# Altium integrated library NSC Switcher.IntLib: 2027 symbols (part 37 of 54)
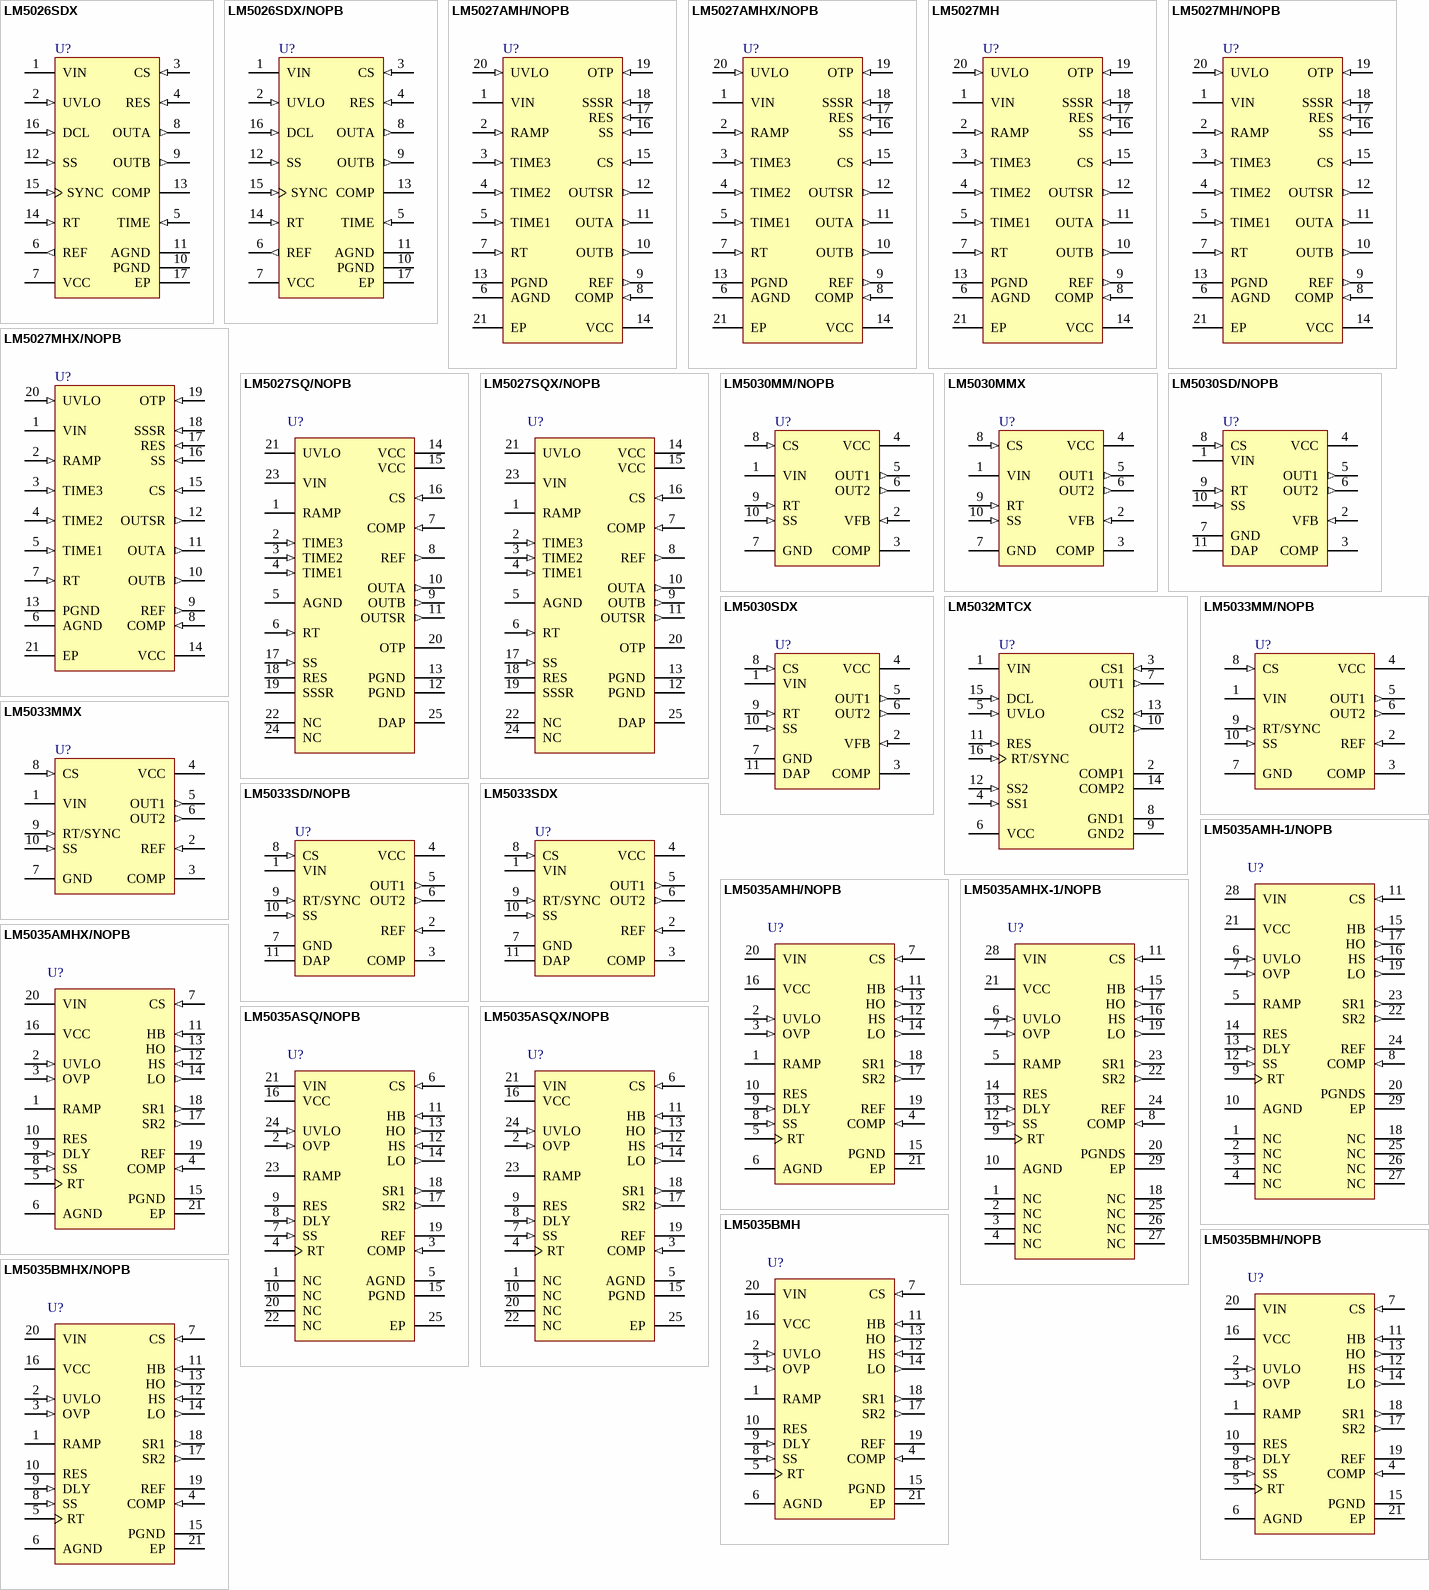
[diagram p99: symbols LM5026SDX to LM5035BMHX/NOPB]

## LM5027AMHX/NOPB
designator U?
Voltage Mode Active Clamp Controller, 20 pin TSSOP EXP PAD; PartNumber: LM5027AMHX/NOPB; Manufacturer: National Semiconductor; PackageTopMarking: NSUZXYTT*LM5027A*MH; PowerWise: N; CompType: Switcher; Published: 16-Nov-2010; DatasheetVersion: Jul-2010; PackageVersion: revC, Jul-2006; PackageReference: MXA20A; Publisher: Altium Limited; PackageDescription: Molded TSSOP, Jedec, 6.5 x 4.4 x 0.9mm Body, 20 Lead, 0.65mm Pitch, Exposed Pad; Supplier 1: Digi-Key; Supplier Part Number 1: LM5027AMHX/NOPB-ND; RoHS: Y; PinCount: 20; Code_JEDEC: MO-153-ACT; ComponentLink1Description: LM5027A Datasheet; ComponentLink1URL: http://www.national.com/ds/LM/LM5027A.pdf; ComponentLink2Description: LM5027A Web Page; ComponentLink2URL: http://www.national.com/pf/LM/LM5027A.html; ComponentLink3Description: MXA20A Package Page; ComponentLink3URL: http://www.national.com/packaging/folders/mxa20a.html
footprint MXA20A_N (TSOP, 20-Leads, Body 6.5x4.4mm, Pitch 0.65mm, Exposed Pad, IPC Medium Density)
footprint MXA20A_L (TSOP, 20-Leads, Body 6.5x4.4mm, Pitch 0.65mm, Exposed Pad, IPC High Density)
footprint MXA20A_M (TSOP, 20-Leads, Body 6.5x4.4mm, Pitch 0.65mm, Exposed Pad, IPC Low Density)
pins: 1 VIN (power), 2 RAMP (in), 3 TIME3 (in), 4 TIME2 (in), 5 TIME1 (in), 6 AGND (power), 7 RT (in), 8 COMP (in), 9 REF (out), 10 OUTB (out), 11 OUTA (out), 12 OUTSR (out), 13 PGND (power), 14 VCC (power), 15 CS (in), 16 SS (in), 17 RES (in), 18 SSSR (in), 19 OTP (in), 20 UVLO (in), 21 EP (power)

## LM5027MH
designator U?
Voltage Mode Active Clamp Controller, 20-pin TSSOP-EP; PartNumber: LM5027MH; Manufacturer: National Semiconductor; PackageTopMarking: NSUZXYTT*LM5027*MH; PowerWise: Y; CompType: Switcher; Published: 9-Oct-2009; DatasheetVersion: Nov-2009; PackageVersion: revC, Jul-2006; PackageReference: MXA20A; Publisher: Altium Limited; PackageDescription: Molded TSSOP, Jedec, 6.5 x 4.4 x 0.9mm Body, 20 Lead, 0.65mm Pitch, Exposed Pad; RoHS: Y; PinCount: 20; Code_JEDEC: MO-153-ACT; ComponentLink1Description: LM5027 Datasheet; ComponentLink1URL: http://www.national.com/ds/LM/LM5027.pdf; ComponentLink2Description: LM5027 Web Page; ComponentLink2URL: http://www.national.com/pf/LM/LM5027.html; ComponentLink3Description: MXA20A Package Page; ComponentLink3URL: http://www.national.com/packaging/folders/mxa20a.html
footprint MXA20A_N (TSOP, 20-Leads, Body 6.5x4.4mm, Pitch 0.65mm, Exposed Pad, IPC Medium Density)
footprint MXA20A_L (TSOP, 20-Leads, Body 6.5x4.4mm, Pitch 0.65mm, Exposed Pad, IPC High Density)
footprint MXA20A_M (TSOP, 20-Leads, Body 6.5x4.4mm, Pitch 0.65mm, Exposed Pad, IPC Low Density)
pins: 1 VIN (power), 2 RAMP (in), 3 TIME3 (in), 4 TIME2 (in), 5 TIME1 (in), 6 AGND (power), 7 RT (in), 8 COMP (in), 9 REF (out), 10 OUTB (out), 11 OUTA (out), 12 OUTSR (out), 13 PGND (power), 14 VCC (power), 15 CS (in), 16 SS (in), 17 RES (in), 18 SSSR (in), 19 OTP (in), 20 UVLO (in), 21 EP (power)

## LM5027MH/NOPB
designator U?
Voltage Mode Active Clamp Controller, 20-pin TSSOP-EP, Pb-Free; PartNumber: LM5027MH/NOPB; Manufacturer: National Semiconductor; PackageTopMarking: NSUZXYTT*LM5027*MH; PowerWise: Y; CompType: Switcher; Published: 1-Mar-2010; DatasheetVersion: Nov-2009; PackageVersion: revC, Jul-2006; PackageReference: MXA20A; Publisher: Altium Limited; PackageDescription: Molded TSSOP, Jedec, 6.5 x 4.4 x 0.9mm Body, 20 Lead, 0.65mm Pitch, Exposed Pad; Supplier 1: Digi-Key; Supplier Part Number 1: LM5027MH-ND; RoHS: Y; PinCount: 20; Code_JEDEC: MO-153-ACT; ComponentLink1Description: LM5027 Datasheet; ComponentLink1URL: http://www.national.com/ds/LM/LM5027.pdf; ComponentLink2Description: LM5027 Web Page; ComponentLink2URL: http://www.national.com/pf/LM/LM5027.html; ComponentLink3Description: MXA20A Package Page; ComponentLink3URL: http://www.national.com/packaging/folders/mxa20a.html
footprint MXA20A_N (TSOP, 20-Leads, Body 6.5x4.4mm, Pitch 0.65mm, Exposed Pad, IPC Medium Density)
footprint MXA20A_L (TSOP, 20-Leads, Body 6.5x4.4mm, Pitch 0.65mm, Exposed Pad, IPC High Density)
footprint MXA20A_M (TSOP, 20-Leads, Body 6.5x4.4mm, Pitch 0.65mm, Exposed Pad, IPC Low Density)
pins: 1 VIN (power), 2 RAMP (in), 3 TIME3 (in), 4 TIME2 (in), 5 TIME1 (in), 6 AGND (power), 7 RT (in), 8 COMP (in), 9 REF (out), 10 OUTB (out), 11 OUTA (out), 12 OUTSR (out), 13 PGND (power), 14 VCC (power), 15 CS (in), 16 SS (in), 17 RES (in), 18 SSSR (in), 19 OTP (in), 20 UVLO (in), 21 EP (power)

## LM5027MHX/NOPB
designator U?
Voltage Mode Active Clamp Controller, 20-pin TSSOP-EP, Pb-Free; PartNumber: LM5027MHX/NOPB; Manufacturer: National Semiconductor; PackageTopMarking: NSUZXYTT*LM5027*MH; PowerWise: Y; CompType: Switcher; Published: 1-Mar-2010; DatasheetVersion: Nov-2009; PackageVersion: revC, Jul-2006; PackageReference: MXA20A; Publisher: Altium Limited; PackageDescription: Molded TSSOP, Jedec, 6.5 x 4.4 x 0.9mm Body, 20 Lead, 0.65mm Pitch, Exposed Pad; Supplier 1: Digi-Key; Supplier Part Number 1: LM5027MHX-ND; RoHS: Y; PinCount: 20; Code_JEDEC: MO-153-ACT; ComponentLink1Description: LM5027 Datasheet; ComponentLink1URL: http://www.national.com/ds/LM/LM5027.pdf; ComponentLink2Description: LM5027 Web Page; ComponentLink2URL: http://www.national.com/pf/LM/LM5027.html; ComponentLink3Description: MXA20A Package Page; ComponentLink3URL: http://www.national.com/packaging/folders/mxa20a.html
footprint MXA20A_N (TSOP, 20-Leads, Body 6.5x4.4mm, Pitch 0.65mm, Exposed Pad, IPC Medium Density)
footprint MXA20A_L (TSOP, 20-Leads, Body 6.5x4.4mm, Pitch 0.65mm, Exposed Pad, IPC High Density)
footprint MXA20A_M (TSOP, 20-Leads, Body 6.5x4.4mm, Pitch 0.65mm, Exposed Pad, IPC Low Density)
pins: 1 VIN (power), 2 RAMP (in), 3 TIME3 (in), 4 TIME2 (in), 5 TIME1 (in), 6 AGND (power), 7 RT (in), 8 COMP (in), 9 REF (out), 10 OUTB (out), 11 OUTA (out), 12 OUTSR (out), 13 PGND (power), 14 VCC (power), 15 CS (in), 16 SS (in), 17 RES (in), 18 SSSR (in), 19 OTP (in), 20 UVLO (in), 21 EP (power)

## LM5027SQ/NOPB
designator U?
Voltage Mode Active Clamp Controller, 24 pin LLP, Pb-Free; PartNumber: LM5027SQ/NOPB; Manufacturer: National Semiconductor; PackageTopMarking: NS*UZXYTT*L5027; PowerWise: Y; CompType: Switcher; Published: 1-Mar-2010; DatasheetVersion: Nov-2009; PackageVersion: revA, Oct-2003; PackageReference: SQA24B; Publisher: Altium Limited; PackageDescription: LLP, Plastic, Quad, 5 x 4 x 0.8mm Body, 24 Lead, 0.5mm Pitch, No Pullback; Supplier 1: Digi-Key; Supplier Part Number 1: LM5027SQTR-ND; Supplier 2: Digi-Key; Supplier Part Number 2: LM5027SQCT-ND; Supplier 3: Digi-Key; Supplier Part Number 3: LM5027SQDKR-ND; RoHS: Y; PinCount: 24; Code_JEDEC: MO-220-WGHD-1; ComponentLink1Description: LM5027 Datasheet; ComponentLink1URL: http://www.national.com/ds/LM/LM5027.pdf; ComponentLink2Description: LM5027 Web Page; ComponentLink2URL: http://www.national.com/pf/LM/LM5027.html; ComponentLink3Description: SQA24B Package Page; ComponentLink3URL: http://www.national.com/packaging/folders/sqa24b.html
footprint SQA24B (QFN, 24-Leads, Body 5x4mm, Pitch 0.5mm, NSC Recommended)
pins: 1 RAMP "Vcom Amplifier negative input.", 2 TIME3 (in) "Vcom Amplifier output.", 3 TIME2 (in) "Analog Ground. Connect to AGND plane.", 4 TIME1 (in) "PMOS switch delay.", 5 AGND (power) "Boost Compensation Network Connection.", 6 RT (in) "Output Voltage Feedback input.", 7 COMP (in) "Power Ground. Connect to PGND plane.", 8 REF (out) "Power Ground. Connect to PGND plane.", 9 OUTB (out) "Not internally connected. Leave floating or connect to Ground.", 10 OUTA (out) "Not internally connected. Leave floating or connect to Ground.", 11 OUTSR (out) "NMOS power switch input.", 12 PGND (power) "NMOS power switch input.", 13 PGND (power) "NMOS power switch input.", 14 VCC (power) "Main power input, step-up and switch circuitry.", 15 VCC (power) "PMOS switch input.", 16 CS (in) "PMOS switch output.", 17 SS (in) "PMOS switch control pin.", 18 RES "Analog power input (buffers).", 19 SSSR "Gamma buffer output.", 20 OTP "Gamma buffer input.", 21 UVLO "Not internally connected. Leave floating or connect to Ground.", 22 NC "Not internally connected. Leave floating or connect to Ground.", 23 VIN (power) "Not internally connected. Leave floating or connect to Ground.", 24 NC "Vcom Amplifier positive input.", 25 DAP (power) "Center Die Attach Pad. Connect directly to AGND and PGND pins beneath the device."

## LM5027SQX/NOPB
designator U?
Voltage Mode Active Clamp Controller, 24 pin LLP, Pb-Free; PartNumber: LM5027SQX/NOPB; Manufacturer: National Semiconductor; PackageTopMarking: NS*UZXYTT*L5027; PowerWise: Y; CompType: Switcher; Published: 1-Mar-2010; DatasheetVersion: Nov-2009; PackageVersion: revA, Oct-2003; PackageReference: SQA24B; Publisher: Altium Limited; PackageDescription: LLP, Plastic, Quad, 5 x 4 x 0.8mm Body, 24 Lead, 0.5mm Pitch, No Pullback; Supplier 1: Digi-Key; Supplier Part Number 1: LM5027SQX/NOPB-ND; RoHS: Y; PinCount: 24; Code_JEDEC: MO-220-WGHD-1; ComponentLink1Description: LM5027 Datasheet; ComponentLink1URL: http://www.national.com/ds/LM/LM5027.pdf; ComponentLink2Description: LM5027 Web Page; ComponentLink2URL: http://www.national.com/pf/LM/LM5027.html; ComponentLink3Description: SQA24B Package Page; ComponentLink3URL: http://www.national.com/packaging/folders/sqa24b.html
footprint SQA24B (QFN, 24-Leads, Body 5x4mm, Pitch 0.5mm, NSC Recommended)
pins: 1 RAMP "Vcom Amplifier negative input.", 2 TIME3 (in) "Vcom Amplifier output.", 3 TIME2 (in) "Analog Ground. Connect to AGND plane.", 4 TIME1 (in) "PMOS switch delay.", 5 AGND (power) "Boost Compensation Network Connection.", 6 RT (in) "Output Voltage Feedback input.", 7 COMP (in) "Power Ground. Connect to PGND plane.", 8 REF (out) "Power Ground. Connect to PGND plane.", 9 OUTB (out) "Not internally connected. Leave floating or connect to Ground.", 10 OUTA (out) "Not internally connected. Leave floating or connect to Ground.", 11 OUTSR (out) "NMOS power switch input.", 12 PGND (power) "NMOS power switch input.", 13 PGND (power) "NMOS power switch input.", 14 VCC (power) "Main power input, step-up and switch circuitry.", 15 VCC (power) "PMOS switch input.", 16 CS (in) "PMOS switch output.", 17 SS (in) "PMOS switch control pin.", 18 RES "Analog power input (buffers).", 19 SSSR "Gamma buffer output.", 20 OTP "Gamma buffer input.", 21 UVLO "Not internally connected. Leave floating or connect to Ground.", 22 NC "Not internally connected. Leave floating or connect to Ground.", 23 VIN (power) "Not internally connected. Leave floating or connect to Ground.", 24 NC "Vcom Amplifier positive input.", 25 DAP (power) "Center Die Attach Pad. Connect directly to AGND and PGND pins beneath the device."

## LM5030MM/NOPB
designator U?
100V Push-Pull Current Mode PWM Controller, 10-pin MSOP, Pb-Free; PartNumber: LM5030MM/NOPB; Manufacturer: National Semiconductor; PackageTopMarking: ZXTT*S73B; PowerWise: Y; CompType: Switcher; Published: 1-Mar-2010; DatasheetVersion: Mar-2005; PackageVersion: revB, Jul-2003; PackageReference: MUB10A; Publisher: Altium Limited; PackageDescription: Mini-SO, Molded, .118 x .118 x .034in Body, 10 Lead, .0197in Pitch; Supplier 1: Digi-Key; Supplier Part Number 1: LM5030MMTR-ND; Supplier 2: Digi-Key; Supplier Part Number 2: LM5030MMCT-ND; Supplier 3: Digi-Key; Supplier Part Number 3: LM5030MMDKR-ND; RoHS: Y; PinCount: 10; Code_JEDEC: MO-187-BA; ComponentLink1Description: LM5030 Datasheet; ComponentLink1URL: http://www.national.com/ds/LM/LM5030.pdf; ComponentLink2Description: LM5030 Web Page; ComponentLink2URL: http://www.national.com/pf/LM/LM5030.html; ComponentLink3Description: MUB10A Package Page; ComponentLink3URL: http://www.national.com/packaging/folders/mub10a.html
footprint MUB10A_N (TSSOP, 10-Leads, Body 3x3mm, Pitch 0.5mm, IPC Medium Density)
footprint MUB10A_L (TSSOP, 10-Leads, Body 3x3mm, Pitch 0.5mm, IPC High Density)
footprint MUB10A_M (TSSOP, 10-Leads, Body 3x3mm, Pitch 0.5mm, IPC Low Density)
pins: 1 VIN (power), 2 VFB (in), 3 COMP, 4 VCC (power), 5 OUT1 (out), 6 OUT2 (out), 7 GND (power), 8 CS (in), 9 RT (in), 10 SS (in)

## LM5030MMX
designator U?
100V Push-Pull Current Mode PWM Controller, 10-pin MSOP; PartNumber: LM5030MMX; Manufacturer: National Semiconductor; PackageTopMarking: ZXTT*S73B; PowerWise: Y; CompType: Switcher; Published: 1-Mar-2010; DatasheetVersion: Mar-2005; PackageVersion: revB, Jul-2003; PackageReference: MUB10A; Publisher: Altium Limited; PackageDescription: Mini-SO, Molded, .118 x .118 x .034in Body, 10 Lead, .0197in Pitch; RoHS: N; PinCount: 10; Code_JEDEC: MO-187-BA; ComponentLink1Description: LM5030 Datasheet; ComponentLink1URL: http://www.national.com/ds/LM/LM5030.pdf; ComponentLink2Description: LM5030 Web Page; ComponentLink2URL: http://www.national.com/pf/LM/LM5030.html; ComponentLink3Description: MUB10A Package Page; ComponentLink3URL: http://www.national.com/packaging/folders/mub10a.html
footprint MUB10A_N (TSSOP, 10-Leads, Body 3x3mm, Pitch 0.5mm, IPC Medium Density)
footprint MUB10A_L (TSSOP, 10-Leads, Body 3x3mm, Pitch 0.5mm, IPC High Density)
footprint MUB10A_M (TSSOP, 10-Leads, Body 3x3mm, Pitch 0.5mm, IPC Low Density)
pins: 1 VIN (power), 2 VFB (in), 3 COMP, 4 VCC (power), 5 OUT1 (out), 6 OUT2 (out), 7 GND (power), 8 CS (in), 9 RT (in), 10 SS (in)

## LM5030SD/NOPB
designator U?
100V Push-Pull Current Mode PWM Controller, 10-pin LLP, Pb-Free; PartNumber: LM5030SD/NOPB; Manufacturer: National Semiconductor; PackageTopMarking: NS*UZXYTT*5030SD; PowerWise: Y; CompType: Switcher; Published: 1-Mar-2010; DatasheetVersion: Mar-2005; PackageVersion: revA, May-2003; PackageReference: SDC10A; Publisher: Altium Limited; PackageDescription: LLP, Plastic, Dual, 4 x 4 x 0.8mm Body, 10 Lead, 0.8mm Pitch, No Pullback; Supplier 1: Digi-Key; Supplier Part Number 1: LM5030SDTR-ND; Supplier 2: Digi-Key; Supplier Part Number 2: LM5030SDCT-ND; Supplier 3: Digi-Key; Supplier Part Number 3: LM5030SDDKR-ND; RoHS: Y; PinCount: 10; ComponentLink1Description: LM5030 Datasheet; ComponentLink1URL: http://www.national.com/ds/LM/LM5030.pdf; ComponentLink2Description: LM5030 Web Page; ComponentLink2URL: http://www.national.com/pf/LM/LM5030.html; ComponentLink3Description: SDC10A Package Page; ComponentLink3URL: http://www.national.com/packaging/folders/sdc10a.html
footprint SDC10A (SON, 10-Leads, Body 4x4 mm, Pitch 0.8mm, NSC Recommended)
pins: 1 VIN (power), 2 VFB (in), 3 COMP, 4 VCC (power), 5 OUT1 (out), 6 OUT2 (out), 7 GND (power), 8 CS (in), 9 RT (in), 10 SS (in), 11 DAP (power)

## LM5030SDX
designator U?
100V Push-Pull Current Mode PWM Controller, 10-pin LLP; PartNumber: LM5030SDX; Manufacturer: National Semiconductor; PackageTopMarking: NS*UZXYTT*5030SD; PowerWise: Y; CompType: Switcher; Published: 1-Mar-2010; DatasheetVersion: Mar-2005; PackageVersion: revA, May-2003; PackageReference: SDC10A; Publisher: Altium Limited; PackageDescription: LLP, Plastic, Dual, 4 x 4 x 0.8mm Body, 10 Lead, 0.8mm Pitch, No Pullback; RoHS: N; PinCount: 10; ComponentLink1Description: LM5030 Datasheet; ComponentLink1URL: http://www.national.com/ds/LM/LM5030.pdf; ComponentLink2Description: LM5030 Web Page; ComponentLink2URL: http://www.national.com/pf/LM/LM5030.html; ComponentLink3Description: SDC10A Package Page; ComponentLink3URL: http://www.national.com/packaging/folders/sdc10a.html
footprint SDC10A (SON, 10-Leads, Body 4x4 mm, Pitch 0.8mm, NSC Recommended)
pins: 1 VIN (power), 2 VFB (in), 3 COMP, 4 VCC (power), 5 OUT1 (out), 6 OUT2 (out), 7 GND (power), 8 CS (in), 9 RT (in), 10 SS (in), 11 DAP (power)

## LM5032MTCX
designator U?
High Voltage Dual Interleaved Current Mode Controller, 16-pin TSSOP; PartNumber: LM5032MTCX; Manufacturer: National Semiconductor; PackageTopMarking: NSUZXYTT*LM5032*MTC; PowerWise: Y; CompType: Switcher; Published: 1-Mar-2010; DatasheetVersion: Mar-2005; PackageVersion: revD, Jun-2003; PackageReference: MTC16; Publisher: Altium Limited; PackageDescription: Molded TSSOP, Jedec, 5 x 4.4 x 0.9mm Body, 16 Lead, 0.65mm Pitch; RoHS: N; PinCount: 16; Code_JEDEC: MO-153-AB; ComponentLink1Description: LM5032 Datasheet; ComponentLink1URL: http://www.national.com/ds/LM/LM5032.pdf; ComponentLink2Description: LM5032 Web Page; ComponentLink2URL: http://www.national.com/pf/LM/LM5032.html; ComponentLink3Description: MTC16 Package Page; ComponentLink3URL: http://www.national.com/packaging/folders/mtc16.html
footprint MTC16_N (TSOP, 16-Leads, Body 5x4.4mm, Pitch 0.65mm, IPC Medium Density)
footprint MTC16_L (TSOP, 16-Leads, Body 5x4.4mm, Pitch 0.65mm, IPC High Density)
footprint MTC16_M (TSOP, 16-Leads, Body 5x4.4mm, Pitch 0.65mm, IPC Low Density)
pins: 1 VIN (power), 2 COMP1, 3 CS1 (in), 4 SS1 (in), 5 UVLO (in), 6 VCC (power), 7 OUT1 (out), 8 GND1 (power), 9 GND2 (power), 10 OUT2 (out), 11 RES (in), 12 SS2 (in), 13 CS2 (in), 14 COMP2, 15 DCL (in), 16 RT/SYNC (in)

## LM5033MM/NOPB
designator U?
100V Push-Pull Voltage Mode PWM Controller, 10-pin MSOP, Pb-Free; PartNumber: LM5033MM/NOPB; Manufacturer: National Semiconductor; PackageTopMarking: ZXTT*SCVB; PowerWise: Y; CompType: Switcher; Published: 1-Mar-2010; DatasheetVersion: Feb-2005; PackageVersion: revB, Jul-2003; PackageReference: MUB10A; Publisher: Altium Limited; PackageDescription: Mini-SO, Molded, .118 x .118 x .034in Body, 10 Lead, .0197in Pitch; Supplier 1: Digi-Key; Supplier Part Number 1: LM5033MMTR-ND; Supplier 2: Digi-Key; Supplier Part Number 2: LM5033MMCT-ND; Supplier 3: Digi-Key; Supplier Part Number 3: LM5033MMDKR-ND; Supplier 4: Farnell; Supplier Part Number 4: 1559756; RoHS: Y; PinCount: 10; Code_JEDEC: MO-187-BA; ComponentLink1Description: LM5033 Datasheet; ComponentLink1URL: http://www.national.com/ds/LM/LM5033.pdf; ComponentLink2Description: LM5033 Web Page; ComponentLink2URL: http://www.national.com/pf/LM/LM5033.html; ComponentLink3Description: MUB10A Package Page; ComponentLink3URL: http://www.national.com/packaging/folders/mub10a.html
footprint MUB10A_N (TSSOP, 10-Leads, Body 3x3mm, Pitch 0.5mm, IPC Medium Density)
footprint MUB10A_L (TSSOP, 10-Leads, Body 3x3mm, Pitch 0.5mm, IPC High Density)
footprint MUB10A_M (TSSOP, 10-Leads, Body 3x3mm, Pitch 0.5mm, IPC Low Density)
pins: 1 VIN (power), 2 REF (in), 3 COMP, 4 VCC (power), 5 OUT1 (out), 6 OUT2 (out), 7 GND (power), 8 CS (in), 9 RT/SYNC (in), 10 SS (in)

## LM5033MMX
designator U?
100V Push-Pull Voltage Mode PWM Controller, 10-pin MSOP; PartNumber: LM5033MMX; Manufacturer: National Semiconductor; PackageTopMarking: ZXTT*SCVB; PowerWise: Y; CompType: Switcher; Published: 1-Mar-2010; DatasheetVersion: Feb-2005; PackageVersion: revB, Jul-2003; PackageReference: MUB10A; Publisher: Altium Limited; PackageDescription: Mini-SO, Molded, .118 x .118 x .034in Body, 10 Lead, .0197in Pitch; RoHS: N; PinCount: 10; Code_JEDEC: MO-187-BA; ComponentLink1Description: LM5033 Datasheet; ComponentLink1URL: http://www.national.com/ds/LM/LM5033.pdf; ComponentLink2Description: LM5033 Web Page; ComponentLink2URL: http://www.national.com/pf/LM/LM5033.html; ComponentLink3Description: MUB10A Package Page; ComponentLink3URL: http://www.national.com/packaging/folders/mub10a.html
footprint MUB10A_N (TSSOP, 10-Leads, Body 3x3mm, Pitch 0.5mm, IPC Medium Density)
footprint MUB10A_L (TSSOP, 10-Leads, Body 3x3mm, Pitch 0.5mm, IPC High Density)
footprint MUB10A_M (TSSOP, 10-Leads, Body 3x3mm, Pitch 0.5mm, IPC Low Density)
pins: 1 VIN (power), 2 REF (in), 3 COMP, 4 VCC (power), 5 OUT1 (out), 6 OUT2 (out), 7 GND (power), 8 CS (in), 9 RT/SYNC (in), 10 SS (in)

## LM5033SD/NOPB
designator U?
100V Push-Pull Voltage Mode PWM Controller, 10-pin LLP, Pb-Free; PartNumber: LM5033SD/NOPB; Manufacturer: National Semiconductor; PackageTopMarking: NS*UZXYTT*5033SD; PowerWise: Y; CompType: Switcher; Published: 1-Mar-2010; DatasheetVersion: Feb-2005; PackageVersion: revA, May-2003; PackageReference: SDC10A; Publisher: Altium Limited; PackageDescription: LLP, Plastic, Dual, 4 x 4 x 0.8mm Body, 10 Lead, 0.8mm Pitch, No Pullback; Supplier 1: Digi-Key; Supplier Part Number 1: LM5033SDTR-ND; Supplier 2: Digi-Key; Supplier Part Number 2: LM5033SDCT-ND; Supplier 3: Digi-Key; Supplier Part Number 3: LM5033SDDKR-ND; RoHS: Y; PinCount: 10; ComponentLink1Description: LM5033 Datasheet; ComponentLink1URL: http://www.national.com/ds/LM/LM5033.pdf; ComponentLink2Description: LM5033 Web Page; ComponentLink2URL: http://www.national.com/pf/LM/LM5033.html; ComponentLink3Description: SDC10A Package Page; ComponentLink3URL: http://www.national.com/packaging/folders/sdc10a.html
footprint SDC10A (SON, 10-Leads, Body 4x4 mm, Pitch 0.8mm, NSC Recommended)
pins: 1 VIN (power), 2 REF (in), 3 COMP, 4 VCC (power), 5 OUT1 (out), 6 OUT2 (out), 7 GND (power), 8 CS (in), 9 RT/SYNC (in), 10 SS (in), 11 DAP (power)

## LM5033SDX
designator U?
100V Push-Pull Voltage Mode PWM Controller, 10-pin LLP; PartNumber: LM5033SDX; Manufacturer: National Semiconductor; PackageTopMarking: NS*UZXYTT*5033SD; PowerWise: Y; CompType: Switcher; Published: 1-Mar-2010; DatasheetVersion: Feb-2005; PackageVersion: revA, May-2003; PackageReference: SDC10A; Publisher: Altium Limited; PackageDescription: LLP, Plastic, Dual, 4 x 4 x 0.8mm Body, 10 Lead, 0.8mm Pitch, No Pullback; RoHS: N; PinCount: 10; ComponentLink1Description: LM5033 Datasheet; ComponentLink1URL: http://www.national.com/ds/LM/LM5033.pdf; ComponentLink2Description: LM5033 Web Page; ComponentLink2URL: http://www.national.com/pf/LM/LM5033.html; ComponentLink3Description: SDC10A Package Page; ComponentLink3URL: http://www.national.com/packaging/folders/sdc10a.html
footprint SDC10A (SON, 10-Leads, Body 4x4 mm, Pitch 0.8mm, NSC Recommended)
pins: 1 VIN (power), 2 REF (in), 3 COMP, 4 VCC (power), 5 OUT1 (out), 6 OUT2 (out), 7 GND (power), 8 CS (in), 9 RT/SYNC (in), 10 SS (in), 11 DAP (power)

## LM5035AMH-1/NOPB
designator U?
PWM Controller with Integrated  Half-Bridge and SyncFET Drivers, 28 pin TSSOP EXP PAD; PartNumber: LM5035AMH-1/NOPB; Manufacturer: National Semiconductor; PackageTopMarking: NSUZXYTT*LM5035*AMH-1; PowerWise: N; CompType: Switcher; Published: 16-Nov-2010; DatasheetVersion: Jul-2010; PackageVersion: revD, Oct-2003; PackageReference: MXA28A; Publisher: Altium Limited; PackageDescription: Molded TSSOP, Jedec, 9.7 x 4.4 x 0.9mm Body, 28 Lead, 0.65mm Pitch, Exposed Pad; Supplier 1: Digi-Key; Supplier Part Number 1: LM5035AMH-1/NOPB-ND; RoHS: Y; PinCount: 28; Code_JEDEC: MO-153-AET; ComponentLink1Description: LM5035A Datasheet; ComponentLink1URL: http://www.national.com/ds/LM/LM5035A.pdf; ComponentLink2Description: LM5035A Web Page; ComponentLink2URL: http://www.national.com/pf/LM/LM5035A.html; ComponentLink3Description: MXA28A Package Page; ComponentLink3URL: http://www.national.com/packaging/folders/mxa28a.html
footprint MXA28A_N (TSOP, 28-Leads, Body 9.7x4.4mm, Pitch 0.65mm, Exposed Pad, IPC Medium Density)
footprint MXA28A_L (TSOP, 28-Leads, Body 9.7x4.4mm, Pitch 0.65mm, Exposed Pad, IPC High Density)
footprint MXA28A_M (TSOP, 28-Leads, Body 9.7x4.4mm, Pitch 0.65mm, Exposed Pad, IPC Low Density)
pins: 1 NC, 2 NC, 3 NC, 4 NC, 5 RAMP, 6 UVLO (in), 7 OVP (in), 8 COMP (in), 9 RT (power), 10 AGND (power), 11 CS (in), 12 SS (in), 13 DLY (in), 14 RES, 15 HB (in), 16 HS (in), 17 HO (out), 18 NC, 19 LO (out), 20 PGNDS (power), 21 VCC (power), 22 SR2 (out), 23 SR1 (out), 24 REF (power), 25 NC, 26 NC, 27 NC, 28 VIN (power), 29 EP (power)

## LM5035AMH/NOPB
designator U?
PWM Controller with Integrated Half-Bridge and SyncFET Drivers, 20-pin TSSOP-EP, Pb-Free; PartNumber: LM5035AMH/NOPB; Manufacturer: National Semiconductor; PackageTopMarking: NSUZXYTT*LM5035*AMH; PowerWise: Y; CompType: Switcher; Published: 1-Mar-2010; DatasheetVersion: Jul-2010; PackageVersion: revC, Jul-2006; PackageReference: MXA20A; Publisher: Altium Limited; PackageDescription: Molded TSSOP, Jedec, 6.5 x 4.4 x 0.9mm Body, 20 Lead, 0.65mm Pitch, Exposed Pad; Supplier 1: Digi-Key; Supplier Part Number 1: LM5035AMH-ND; RoHS: Y; PinCount: 20; Code_JEDEC: MO-153-ACT; ComponentLink1Description: LM5035A Datasheet; ComponentLink1URL: http://www.national.com/ds/LM/LM5035A.pdf; ComponentLink2Description: LM5035A Web Page; ComponentLink2URL: http://www.national.com/pf/LM/LM5035A.html; ComponentLink3Description: MXA20A Package Page; ComponentLink3URL: http://www.national.com/packaging/folders/mxa20a.html
footprint MXA20A_N (TSOP, 20-Leads, Body 6.5x4.4mm, Pitch 0.65mm, Exposed Pad, IPC Medium Density)
footprint MXA20A_L (TSOP, 20-Leads, Body 6.5x4.4mm, Pitch 0.65mm, Exposed Pad, IPC High Density)
footprint MXA20A_M (TSOP, 20-Leads, Body 6.5x4.4mm, Pitch 0.65mm, Exposed Pad, IPC Low Density)
pins: 1 RAMP, 2 UVLO (in), 3 OVP (in), 4 COMP (in), 5 RT (power), 6 AGND (power), 7 CS (in), 8 SS (in), 9 DLY (in), 10 RES, 11 HB (in), 12 HS (in), 13 HO (out), 14 LO (out), 15 PGND (power), 16 VCC (power), 17 SR2 (out), 18 SR1 (out), 19 REF (power), 20 VIN (power), 21 EP (power)

## LM5035AMHX-1/NOPB
designator U?
PWM Controller with Integrated  Half-Bridge and SyncFET Drivers, 28 pin TSSOP EXP PAD; PartNumber: LM5035AMHX-1/NOPB; Manufacturer: National Semiconductor; PackageTopMarking: NSUZXYTT*LM5035*AMH-1; PowerWise: N; CompType: Switcher; Published: 16-Nov-2010; DatasheetVersion: Jul-2010; PackageVersion: revD, Oct-2003; PackageReference: MXA28A; Publisher: Altium Limited; PackageDescription: Molded TSSOP, Jedec, 9.7 x 4.4 x 0.9mm Body, 28 Lead, 0.65mm Pitch, Exposed Pad; Supplier 1: Digi-Key; Supplier Part Number 1: LM5035AMHX-1/NOPB-ND; RoHS: Y; PinCount: 28; Code_JEDEC: MO-153-AET; ComponentLink1Description: LM5035A Datasheet; ComponentLink1URL: http://www.national.com/ds/LM/LM5035A.pdf; ComponentLink2Description: LM5035A Web Page; ComponentLink2URL: http://www.national.com/pf/LM/LM5035A.html; ComponentLink3Description: MXA28A Package Page; ComponentLink3URL: http://www.national.com/packaging/folders/mxa28a.html
footprint MXA28A_N (TSOP, 28-Leads, Body 9.7x4.4mm, Pitch 0.65mm, Exposed Pad, IPC Medium Density)
footprint MXA28A_L (TSOP, 28-Leads, Body 9.7x4.4mm, Pitch 0.65mm, Exposed Pad, IPC High Density)
footprint MXA28A_M (TSOP, 28-Leads, Body 9.7x4.4mm, Pitch 0.65mm, Exposed Pad, IPC Low Density)
pins: 1 NC, 2 NC, 3 NC, 4 NC, 5 RAMP, 6 UVLO (in), 7 OVP (in), 8 COMP (in), 9 RT (power), 10 AGND (power), 11 CS (in), 12 SS (in), 13 DLY (in), 14 RES, 15 HB (in), 16 HS (in), 17 HO (out), 18 NC, 19 LO (out), 20 PGNDS (power), 21 VCC (power), 22 SR2 (out), 23 SR1 (out), 24 REF (power), 25 NC, 26 NC, 27 NC, 28 VIN (power), 29 EP (power)

## LM5035AMHX/NOPB
designator U?
PWM Controller with Integrated Half-Bridge and SyncFET Drivers, 20-pin TSSOP-EP, Pb-Free; PartNumber: LM5035AMHX/NOPB; Manufacturer: National Semiconductor; PackageTopMarking: NSUZXYTT*LM5035*AMH; PowerWise: Y; CompType: Switcher; Published: 1-Mar-2010; DatasheetVersion: Jul-2010; PackageVersion: revC, Jul-2006; PackageReference: MXA20A; Publisher: Altium Limited; PackageDescription: Molded TSSOP, Jedec, 6.5 x 4.4 x 0.9mm Body, 20 Lead, 0.65mm Pitch, Exposed Pad; Supplier 1: Digi-Key; Supplier Part Number 1: LM5035AMHX-ND; RoHS: Y; PinCount: 20; Code_JEDEC: MO-153-ACT; ComponentLink1Description: LM5035A Datasheet; ComponentLink1URL: http://www.national.com/ds/LM/LM5035A.pdf; ComponentLink2Description: LM5035A Web Page; ComponentLink2URL: http://www.national.com/pf/LM/LM5035A.html; ComponentLink3Description: MXA20A Package Page; ComponentLink3URL: http://www.national.com/packaging/folders/mxa20a.html
footprint MXA20A_N (TSOP, 20-Leads, Body 6.5x4.4mm, Pitch 0.65mm, Exposed Pad, IPC Medium Density)
footprint MXA20A_L (TSOP, 20-Leads, Body 6.5x4.4mm, Pitch 0.65mm, Exposed Pad, IPC High Density)
footprint MXA20A_M (TSOP, 20-Leads, Body 6.5x4.4mm, Pitch 0.65mm, Exposed Pad, IPC Low Density)
pins: 1 RAMP, 2 UVLO (in), 3 OVP (in), 4 COMP (in), 5 RT (power), 6 AGND (power), 7 CS (in), 8 SS (in), 9 DLY (in), 10 RES, 11 HB (in), 12 HS (in), 13 HO (out), 14 LO (out), 15 PGND (power), 16 VCC (power), 17 SR2 (out), 18 SR1 (out), 19 REF (power), 20 VIN (power), 21 EP (power)

## LM5035ASQ/NOPB
designator U?
PWM Controller with Integrated Half-Bridge and SyncFET Drivers, 24-pin LLP, Pb-Free; PartNumber: LM5035ASQ/NOPB; Manufacturer: National Semiconductor; PackageTopMarking: NS*UZXYTT*5035ASQ; PowerWise: Y; CompType: Switcher; Published: 1-Mar-2010; DatasheetVersion: Jul-2010; PackageVersion: revA, Oct-2003; PackageReference: SQA24B; Publisher: Altium Limited; PackageDescription: LLP, Plastic, Quad, 5 x 4 x 0.8mm Body, 24 Lead, 0.5mm Pitch, No Pullback; Supplier 1: Digi-Key; Supplier Part Number 1: LM5035ASQTR-ND; Supplier 2: Digi-Key; Supplier Part Number 2: LM5035ASQCT-ND; Supplier 3: Digi-Key; Supplier Part Number 3: LM5035ASQDKR-ND; Supplier 4: Farnell; Supplier Part Number 4: 1685773; RoHS: Y; PinCount: 24; Code_JEDEC: MO-220-WGHD-1; ComponentLink1Description: LM5035A Datasheet; ComponentLink1URL: http://www.national.com/ds/LM/LM5035A.pdf; ComponentLink2Description: LM5035A Web Page; ComponentLink2URL: http://www.national.com/pf/LM/LM5035A.html; ComponentLink3Description: SQA24B Package Page; ComponentLink3URL: http://www.national.com/packaging/folders/sqa24b.html
footprint SQA24B (QFN, 24-Leads, Body 5x4mm, Pitch 0.5mm, NSC Recommended)
pins: 1 NC, 2 OVP (in), 3 COMP (in), 4 RT (power), 5 AGND (power), 6 CS (in), 7 SS (in), 8 DLY (in), 9 RES, 10 NC, 11 HB (in), 12 HS (in), 13 HO (out), 14 LO (out), 15 PGND (power), 16 VCC (power), 17 SR2 (out), 18 SR1 (out), 19 REF (power), 20 NC, 21 VIN (power), 22 NC, 23 RAMP, 24 UVLO (in), 25 EP (power)

## LM5035ASQX/NOPB
designator U?
PWM Controller with Integrated Half-Bridge and SyncFET Drivers, 24-pin LLP, Pb-Free; PartNumber: LM5035ASQX/NOPB; Manufacturer: National Semiconductor; PackageTopMarking: NS*UZXYTT*5035ASQ; PowerWise: Y; CompType: Switcher; Published: 1-Mar-2010; DatasheetVersion: Jul-2010; PackageVersion: revA, Oct-2003; PackageReference: SQA24B; Publisher: Altium Limited; PackageDescription: LLP, Plastic, Quad, 5 x 4 x 0.8mm Body, 24 Lead, 0.5mm Pitch, No Pullback; Supplier 1: Digi-Key; Supplier Part Number 1: LM5035ASQX-ND; RoHS: Y; PinCount: 24; Code_JEDEC: MO-220-WGHD-1; ComponentLink1Description: LM5035A Datasheet; ComponentLink1URL: http://www.national.com/ds/LM/LM5035A.pdf; ComponentLink2Description: LM5035A Web Page; ComponentLink2URL: http://www.national.com/pf/LM/LM5035A.html; ComponentLink3Description: SQA24B Package Page; ComponentLink3URL: http://www.national.com/packaging/folders/sqa24b.html
footprint SQA24B (QFN, 24-Leads, Body 5x4mm, Pitch 0.5mm, NSC Recommended)
pins: 1 NC, 2 OVP (in), 3 COMP (in), 4 RT (power), 5 AGND (power), 6 CS (in), 7 SS (in), 8 DLY (in), 9 RES, 10 NC, 11 HB (in), 12 HS (in), 13 HO (out), 14 LO (out), 15 PGND (power), 16 VCC (power), 17 SR2 (out), 18 SR1 (out), 19 REF (power), 20 NC, 21 VIN (power), 22 NC, 23 RAMP, 24 UVLO (in), 25 EP (power)

## LM5035BMH
designator U?
PWM Controller with Integrated Half-Bridge and SyncFET Drivers, 20-pin TSSOP-EP; PartNumber: LM5035BMH; Manufacturer: National Semiconductor; PackageTopMarking: NSUZXYTT*LM5035*BMH; PowerWise: N; CompType: Switcher; Published: 9-Oct-2009; DatasheetVersion: Jul-2009; PackageVersion: revC, Jul-2006; PackageReference: MXA20A; Publisher: Altium Limited; PackageDescription: Molded TSSOP, Jedec, 6.5 x 4.4 x 0.9mm Body, 20 Lead, 0.65mm Pitch, Exposed Pad; RoHS: Y; PinCount: 20; Code_JEDEC: MO-153-ACT; ComponentLink1Description: LM5035B Datasheet; ComponentLink1URL: http://www.national.com/ds/LM/LM5035B.pdf; ComponentLink2Description: LM5035B Web Page; ComponentLink2URL: http://www.national.com/pf/LM/LM5035B.html; ComponentLink3Description: MXA20A Package Page; ComponentLink3URL: http://www.national.com/packaging/folders/mxa20a.html
footprint MXA20A_N (TSOP, 20-Leads, Body 6.5x4.4mm, Pitch 0.65mm, Exposed Pad, IPC Medium Density)
footprint MXA20A_L (TSOP, 20-Leads, Body 6.5x4.4mm, Pitch 0.65mm, Exposed Pad, IPC High Density)
footprint MXA20A_M (TSOP, 20-Leads, Body 6.5x4.4mm, Pitch 0.65mm, Exposed Pad, IPC Low Density)
pins: 1 RAMP, 2 UVLO (in), 3 OVP (in), 4 COMP (in), 5 RT (power), 6 AGND (power), 7 CS (in), 8 SS (in), 9 DLY (in), 10 RES, 11 HB (in), 12 HS (in), 13 HO (out), 14 LO (out), 15 PGND (power), 16 VCC (power), 17 SR2 (out), 18 SR1 (out), 19 REF (power), 20 VIN (power), 21 EP (power)

## LM5035BMH/NOPB
designator U?
PWM Controller with Integrated Half-Bridge and SyncFET Drivers, 20-pin TSSOP-EP, Pb-Free; PartNumber: LM5035BMH/NOPB; Manufacturer: National Semiconductor; PackageTopMarking: NSUZXYTT*LM5035*BMH; PowerWise: Y; CompType: Switcher; Published: 1-Mar-2010; DatasheetVersion: Jul-2009; PackageVersion: revC, Jul-2006; PackageReference: MXA20A; Publisher: Altium Limited; PackageDescription: Molded TSSOP, Jedec, 6.5 x 4.4 x 0.9mm Body, 20 Lead, 0.65mm Pitch, Exposed Pad; Supplier 1: Digi-Key; Supplier Part Number 1: LM5035BMH-ND; RoHS: Y; PinCount: 20; Code_JEDEC: MO-153-ACT; ComponentLink1Description: LM5035B Datasheet; ComponentLink1URL: http://www.national.com/ds/LM/LM5035B.pdf; ComponentLink2Description: LM5035B Web Page; ComponentLink2URL: http://www.national.com/pf/LM/LM5035B.html; ComponentLink3Description: MXA20A Package Page; ComponentLink3URL: http://www.national.com/packaging/folders/mxa20a.html
footprint MXA20A_N (TSOP, 20-Leads, Body 6.5x4.4mm, Pitch 0.65mm, Exposed Pad, IPC Medium Density)
footprint MXA20A_L (TSOP, 20-Leads, Body 6.5x4.4mm, Pitch 0.65mm, Exposed Pad, IPC High Density)
footprint MXA20A_M (TSOP, 20-Leads, Body 6.5x4.4mm, Pitch 0.65mm, Exposed Pad, IPC Low Density)
pins: 1 RAMP, 2 UVLO (in), 3 OVP (in), 4 COMP (in), 5 RT (power), 6 AGND (power), 7 CS (in), 8 SS (in), 9 DLY (in), 10 RES, 11 HB (in), 12 HS (in), 13 HO (out), 14 LO (out), 15 PGND (power), 16 VCC (power), 17 SR2 (out), 18 SR1 (out), 19 REF (power), 20 VIN (power), 21 EP (power)

## LM5035BMHX/NOPB
designator U?
PWM Controller with Integrated Half-Bridge and SyncFET Drivers, 20-pin TSSOP-EP, Pb-Free; PartNumber: LM5035BMHX/NOPB; Manufacturer: National Semiconductor; PackageTopMarking: NSUZXYTT*LM5035*BMH; PowerWise: Y; CompType: Switcher; Published: 1-Mar-2010; DatasheetVersion: Jul-2009; PackageVersion: revC, Jul-2006; PackageReference: MXA20A; Publisher: Altium Limited; PackageDescription: Molded TSSOP, Jedec, 6.5 x 4.4 x 0.9mm Body, 20 Lead, 0.65mm Pitch, Exposed Pad; Supplier 1: Digi-Key; Supplier Part Number 1: LM5035BMHX-ND; RoHS: Y; PinCount: 20; Code_JEDEC: MO-153-ACT; ComponentLink1Description: LM5035B Datasheet; ComponentLink1URL: http://www.national.com/ds/LM/LM5035B.pdf; ComponentLink2Description: LM5035B Web Page; ComponentLink2URL: http://www.national.com/pf/LM/LM5035B.html; ComponentLink3Description: MXA20A Package Page; ComponentLink3URL: http://www.national.com/packaging/folders/mxa20a.html
footprint MXA20A_N (TSOP, 20-Leads, Body 6.5x4.4mm, Pitch 0.65mm, Exposed Pad, IPC Medium Density)
footprint MXA20A_L (TSOP, 20-Leads, Body 6.5x4.4mm, Pitch 0.65mm, Exposed Pad, IPC High Density)
footprint MXA20A_M (TSOP, 20-Leads, Body 6.5x4.4mm, Pitch 0.65mm, Exposed Pad, IPC Low Density)
pins: 1 RAMP, 2 UVLO (in), 3 OVP (in), 4 COMP (in), 5 RT (power), 6 AGND (power), 7 CS (in), 8 SS (in), 9 DLY (in), 10 RES, 11 HB (in), 12 HS (in), 13 HO (out), 14 LO (out), 15 PGND (power), 16 VCC (power), 17 SR2 (out), 18 SR1 (out), 19 REF (power), 20 VIN (power), 21 EP (power)

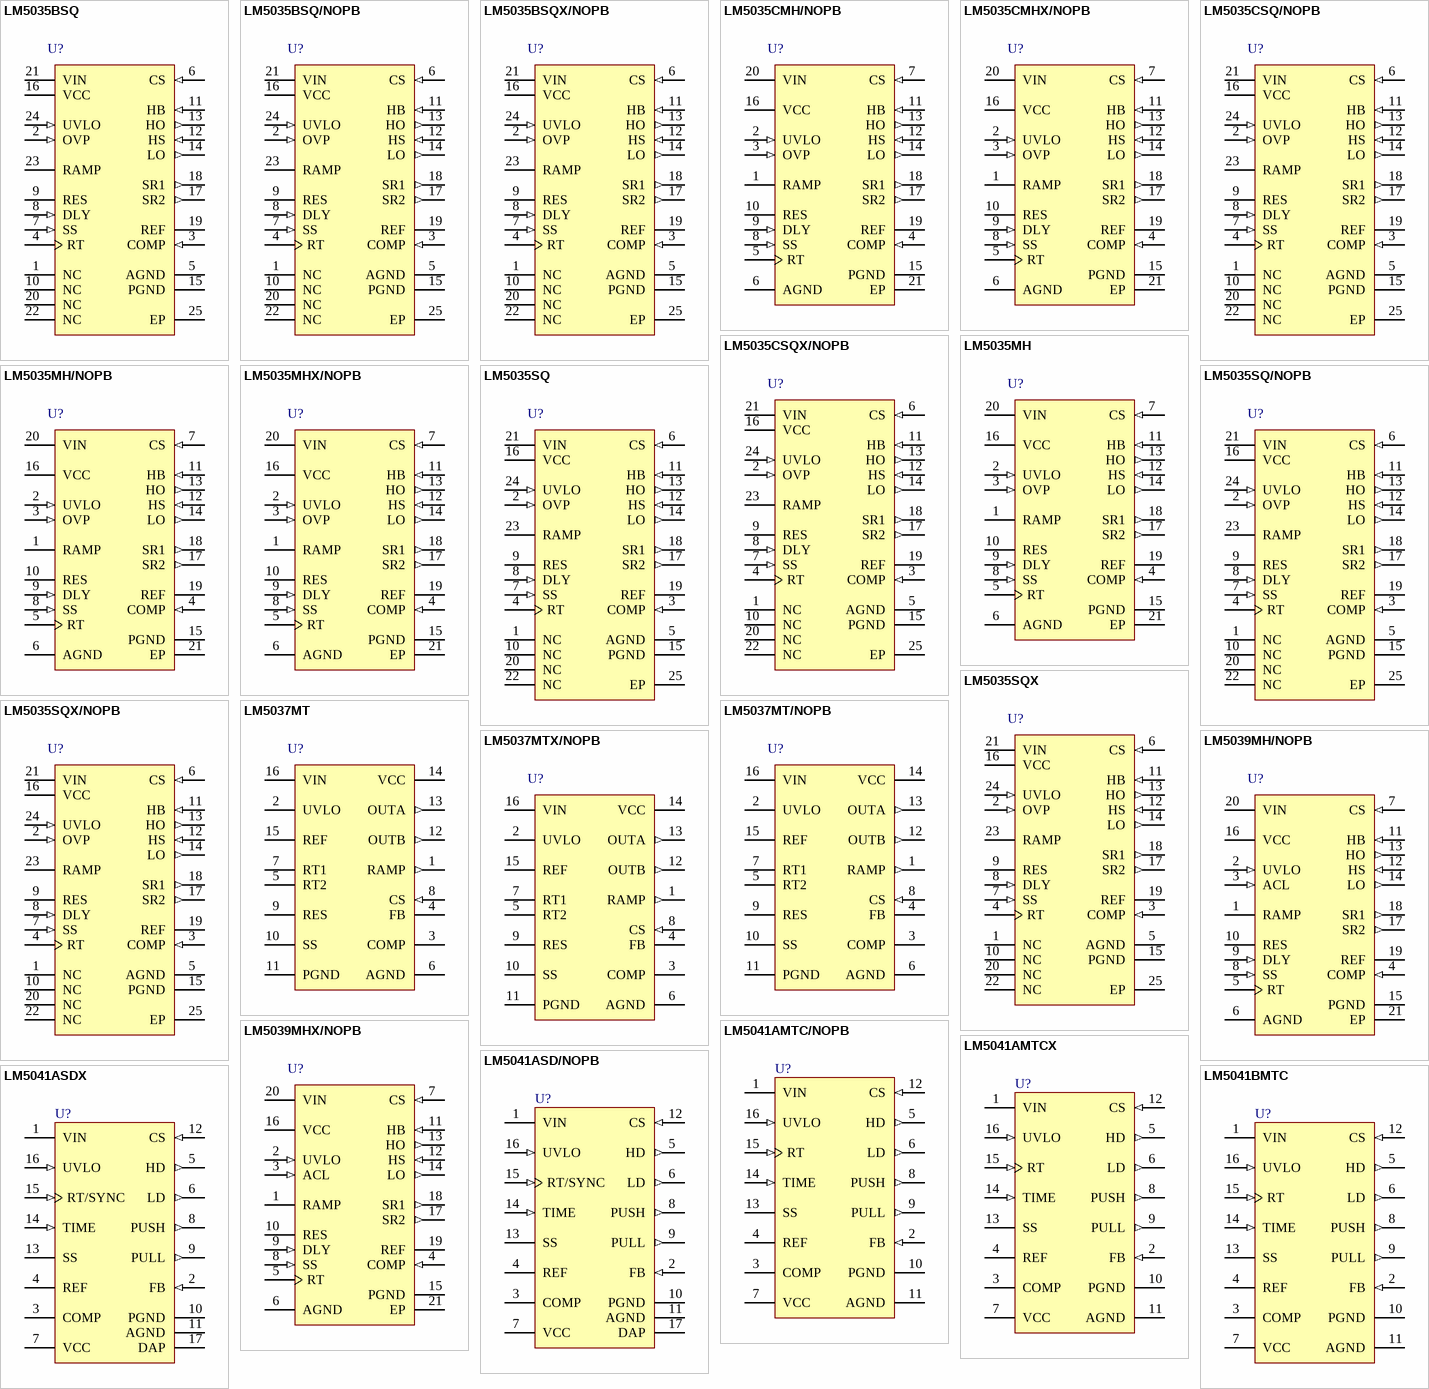
[diagram p41: symbols LM5035BSQ to LM5041BMTC]

## LM5035BSQ
designator U?
PWM Controller with Integrated Half-Bridge and SyncFET Drivers, 24-pin LLP; PartNumber: LM5035BSQ; Manufacturer: National Semiconductor; PackageTopMarking: NS*UZXYTT*5035BSQ; PowerWise: N; CompType: Switcher; Published: 9-Oct-2009; DatasheetVersion: Jul-2009; PackageVersion: revA, Oct-2003; PackageReference: SQA24B; Publisher: Altium Limited; PackageDescription: LLP, Plastic, Quad, 5 x 4 x 0.8mm Body, 24 Lead, 0.5mm Pitch, No Pullback; RoHS: Y; PinCount: 24; Code_JEDEC: MO-220-WGHD-1; ComponentLink1Description: LM5035B Datasheet; ComponentLink1URL: http://www.national.com/ds/LM/LM5035B.pdf; ComponentLink2Description: LM5035B Web Page; ComponentLink2URL: http://www.national.com/pf/LM/LM5035B.html; ComponentLink3Description: SQA24B Package Page; ComponentLink3URL: http://www.national.com/packaging/folders/sqa24b.html
footprint SQA24B (QFN, 24-Leads, Body 5x4mm, Pitch 0.5mm, NSC Recommended)
pins: 1 NC, 2 OVP (in), 3 COMP (in), 4 RT (power), 5 AGND (power), 6 CS (in), 7 SS (in), 8 DLY (in), 9 RES, 10 NC, 11 HB (in), 12 HS (in), 13 HO (out), 14 LO (out), 15 PGND (power), 16 VCC (power), 17 SR2 (out), 18 SR1 (out), 19 REF (power), 20 NC, 21 VIN (power), 22 NC, 23 RAMP, 24 UVLO (in), 25 EP (power)

## LM5035BSQ/NOPB
designator U?
PWM Controller with Integrated Half-Bridge and SyncFET Drivers, 24-pin LLP, Pb-Free; PartNumber: LM5035BSQ/NOPB; Manufacturer: National Semiconductor; PackageTopMarking: NS*UZXYTT*5035BSQ; PowerWise: Y; CompType: Switcher; Published: 1-Mar-2010; DatasheetVersion: Jul-2009; PackageVersion: revA, Oct-2003; PackageReference: SQA24B; Publisher: Altium Limited; PackageDescription: LLP, Plastic, Quad, 5 x 4 x 0.8mm Body, 24 Lead, 0.5mm Pitch, No Pullback; Supplier 1: Digi-Key; Supplier Part Number 1: LM5035BSQ/NOPBTR-ND; Supplier 2: Digi-Key; Supplier Part Number 2: LM5035BSQ/NOPBCT-ND; Supplier 3: Digi-Key; Supplier Part Number 3: LM5035BSQ/NOPBDKR-ND; RoHS: Y; PinCount: 24; Code_JEDEC: MO-220-WGHD-1; ComponentLink1Description: LM5035B Datasheet; ComponentLink1URL: http://www.national.com/ds/LM/LM5035B.pdf; ComponentLink2Description: LM5035B Web Page; ComponentLink2URL: http://www.national.com/pf/LM/LM5035B.html; ComponentLink3Description: SQA24B Package Page; ComponentLink3URL: http://www.national.com/packaging/folders/sqa24b.html
footprint SQA24B (QFN, 24-Leads, Body 5x4mm, Pitch 0.5mm, NSC Recommended)
pins: 1 NC, 2 OVP (in), 3 COMP (in), 4 RT (power), 5 AGND (power), 6 CS (in), 7 SS (in), 8 DLY (in), 9 RES, 10 NC, 11 HB (in), 12 HS (in), 13 HO (out), 14 LO (out), 15 PGND (power), 16 VCC (power), 17 SR2 (out), 18 SR1 (out), 19 REF (power), 20 NC, 21 VIN (power), 22 NC, 23 RAMP, 24 UVLO (in), 25 EP (power)

## LM5035BSQX/NOPB
designator U?
PWM Controller with Integrated Half-Bridge and SyncFET Drivers, 24-pin LLP, Pb-Free; PartNumber: LM5035BSQX/NOPB; Manufacturer: National Semiconductor; PackageTopMarking: NS*UZXYTT*5035BSQ; PowerWise: Y; CompType: Switcher; Published: 1-Mar-2010; DatasheetVersion: Jul-2009; PackageVersion: revA, Oct-2003; PackageReference: SQA24B; Publisher: Altium Limited; PackageDescription: LLP, Plastic, Quad, 5 x 4 x 0.8mm Body, 24 Lead, 0.5mm Pitch, No Pullback; Supplier 1: Digi-Key; Supplier Part Number 1: LM5035BSQX-ND; RoHS: Y; PinCount: 24; Code_JEDEC: MO-220-WGHD-1; ComponentLink1Description: LM5035B Datasheet; ComponentLink1URL: http://www.national.com/ds/LM/LM5035B.pdf; ComponentLink2Description: LM5035B Web Page; ComponentLink2URL: http://www.national.com/pf/LM/LM5035B.html; ComponentLink3Description: SQA24B Package Page; ComponentLink3URL: http://www.national.com/packaging/folders/sqa24b.html
footprint SQA24B (QFN, 24-Leads, Body 5x4mm, Pitch 0.5mm, NSC Recommended)
pins: 1 NC, 2 OVP (in), 3 COMP (in), 4 RT (power), 5 AGND (power), 6 CS (in), 7 SS (in), 8 DLY (in), 9 RES, 10 NC, 11 HB (in), 12 HS (in), 13 HO (out), 14 LO (out), 15 PGND (power), 16 VCC (power), 17 SR2 (out), 18 SR1 (out), 19 REF (power), 20 NC, 21 VIN (power), 22 NC, 23 RAMP, 24 UVLO (in), 25 EP (power)

## LM5035CMH/NOPB
designator U?
PWM Controller with Integrated Half-Bridge and SyncFET Drivers, 20-pin TSSOP-EP, Pb-Free; PartNumber: LM5035CMH/NOPB; Manufacturer: National Semiconductor; PackageTopMarking: NSUZXYTT*LM5035*CMH; PowerWise: Y; CompType: Switcher; Published: 1-Mar-2010; DatasheetVersion: Jan-2010; PackageVersion: revC, Jul-2006; PackageReference: MXA20A; Publisher: Altium Limited; PackageDescription: Molded TSSOP, Jedec, 6.5 x 4.4 x 0.9mm Body, 20 Lead, 0.65mm Pitch, Exposed Pad; Supplier 1: Digi-Key; Supplier Part Number 1: LM5035CMH-ND; Supplier 2: Farnell; Supplier Part Number 2: 1822988; RoHS: Y; PinCount: 20; Code_JEDEC: MO-153-ACT; ComponentLink1Description: LM5035 Datasheet; ComponentLink1URL: http://www.national.com/ds/LM/LM5035C.pdf; ComponentLink2Description: LM5035 Web Page; ComponentLink2URL: http://www.national.com/pf/LM/LM5035.html; ComponentLink3Description: MXA20A Package Page; ComponentLink3URL: http://www.national.com/packaging/folders/mxa20a.html
footprint MXA20A_N (TSOP, 20-Leads, Body 6.5x4.4mm, Pitch 0.65mm, Exposed Pad, IPC Medium Density)
footprint MXA20A_L (TSOP, 20-Leads, Body 6.5x4.4mm, Pitch 0.65mm, Exposed Pad, IPC High Density)
footprint MXA20A_M (TSOP, 20-Leads, Body 6.5x4.4mm, Pitch 0.65mm, Exposed Pad, IPC Low Density)
pins: 1 RAMP, 2 UVLO (in), 3 OVP (in), 4 COMP (in), 5 RT (power), 6 AGND (power), 7 CS (in), 8 SS (in), 9 DLY (in), 10 RES, 11 HB (in), 12 HS (in), 13 HO (out), 14 LO (out), 15 PGND (power), 16 VCC (power), 17 SR2 (out), 18 SR1 (out), 19 REF (power), 20 VIN (power), 21 EP (power)

## LM5035CMHX/NOPB
designator U?
PWM Controller with Integrated Half-Bridge and SyncFET Drivers, 20-pin TSSOP-EP, Pb-Free; PartNumber: LM5035CMHX/NOPB; Manufacturer: National Semiconductor; PackageTopMarking: NSUZXYTT*LM5035*CMH; PowerWise: Y; CompType: Switcher; Published: 1-Mar-2010; DatasheetVersion: Jan-2010; PackageVersion: revC, Jul-2006; PackageReference: MXA20A; Publisher: Altium Limited; PackageDescription: Molded TSSOP, Jedec, 6.5 x 4.4 x 0.9mm Body, 20 Lead, 0.65mm Pitch, Exposed Pad; Supplier 1: Digi-Key; Supplier Part Number 1: LM5035CMHX-ND; RoHS: Y; PinCount: 20; Code_JEDEC: MO-153-ACT; ComponentLink1Description: LM5035 Datasheet; ComponentLink1URL: http://www.national.com/ds/LM/LM5035C.pdf; ComponentLink2Description: LM5035 Web Page; ComponentLink2URL: http://www.national.com/pf/LM/LM5035.html; ComponentLink3Description: MXA20A Package Page; ComponentLink3URL: http://www.national.com/packaging/folders/mxa20a.html
footprint MXA20A_N (TSOP, 20-Leads, Body 6.5x4.4mm, Pitch 0.65mm, Exposed Pad, IPC Medium Density)
footprint MXA20A_L (TSOP, 20-Leads, Body 6.5x4.4mm, Pitch 0.65mm, Exposed Pad, IPC High Density)
footprint MXA20A_M (TSOP, 20-Leads, Body 6.5x4.4mm, Pitch 0.65mm, Exposed Pad, IPC Low Density)
pins: 1 RAMP, 2 UVLO (in), 3 OVP (in), 4 COMP (in), 5 RT (power), 6 AGND (power), 7 CS (in), 8 SS (in), 9 DLY (in), 10 RES, 11 HB (in), 12 HS (in), 13 HO (out), 14 LO (out), 15 PGND (power), 16 VCC (power), 17 SR2 (out), 18 SR1 (out), 19 REF (power), 20 VIN (power), 21 EP (power)

## LM5035CSQ/NOPB
designator U?
PWM Controller with Integrated Half-Bridge and SyncFET Drivers, 24-pin LLP, Pb-Free; PartNumber: LM5035CSQ/NOPB; Manufacturer: National Semiconductor; PackageTopMarking: NS*UZXYTT*5035CSQ; PowerWise: Y; CompType: Switcher; Published: 1-Mar-2010; DatasheetVersion: Jan-2010; PackageVersion: revA, Oct-2003; PackageReference: SQA24B; Publisher: Altium Limited; PackageDescription: LLP, Plastic, Quad, 5 x 4 x 0.8mm Body, 24 Lead, 0.5mm Pitch, No Pullback; Supplier 1: Digi-Key; Supplier Part Number 1: LM5035CSQTR-ND; Supplier 2: Digi-Key; Supplier Part Number 2: LM5035CSQCT-ND; Supplier 3: Digi-Key; Supplier Part Number 3: LM5035CSQDKR-ND; Supplier 4: Farnell; Supplier Part Number 4: 1822989; RoHS: Y; PinCount: 24; Code_JEDEC: MO-220-WGHD-1; ComponentLink1Description: LM5035 Datasheet; ComponentLink1URL: http://www.national.com/ds/LM/LM5035C.pdf; ComponentLink2Description: LM5035 Web Page; ComponentLink2URL: http://www.national.com/pf/LM/LM5035.html; ComponentLink3Description: SQA24B Package Page; ComponentLink3URL: http://www.national.com/packaging/folders/sqa24b.html
footprint SQA24B (QFN, 24-Leads, Body 5x4mm, Pitch 0.5mm, NSC Recommended)
pins: 1 NC, 2 OVP (in), 3 COMP (in), 4 RT (power), 5 AGND (power), 6 CS (in), 7 SS (in), 8 DLY (in), 9 RES, 10 NC, 11 HB (in), 12 HS (in), 13 HO (out), 14 LO (out), 15 PGND (power), 16 VCC (power), 17 SR2 (out), 18 SR1 (out), 19 REF (power), 20 NC, 21 VIN (power), 22 NC, 23 RAMP, 24 UVLO (in), 25 EP (power)

## LM5035CSQX/NOPB
designator U?
PWM Controller with Integrated Half-Bridge and SyncFET Drivers, 24-pin LLP, Pb-Free; PartNumber: LM5035CSQX/NOPB; Manufacturer: National Semiconductor; PackageTopMarking: NS*UZXYTT*5035CSQ; PowerWise: Y; CompType: Switcher; Published: 1-Mar-2010; DatasheetVersion: Jan-2010; PackageVersion: revA, Oct-2003; PackageReference: SQA24B; Publisher: Altium Limited; PackageDescription: LLP, Plastic, Quad, 5 x 4 x 0.8mm Body, 24 Lead, 0.5mm Pitch, No Pullback; Supplier 1: Digi-Key; Supplier Part Number 1: LM5035CSQX-ND; RoHS: Y; PinCount: 24; Code_JEDEC: MO-220-WGHD-1; ComponentLink1Description: LM5035 Datasheet; ComponentLink1URL: http://www.national.com/ds/LM/LM5035C.pdf; ComponentLink2Description: LM5035 Web Page; ComponentLink2URL: http://www.national.com/pf/LM/LM5035.html; ComponentLink3Description: SQA24B Package Page; ComponentLink3URL: http://www.national.com/packaging/folders/sqa24b.html
footprint SQA24B (QFN, 24-Leads, Body 5x4mm, Pitch 0.5mm, NSC Recommended)
pins: 1 NC, 2 OVP (in), 3 COMP (in), 4 RT (power), 5 AGND (power), 6 CS (in), 7 SS (in), 8 DLY (in), 9 RES, 10 NC, 11 HB (in), 12 HS (in), 13 HO (out), 14 LO (out), 15 PGND (power), 16 VCC (power), 17 SR2 (out), 18 SR1 (out), 19 REF (power), 20 NC, 21 VIN (power), 22 NC, 23 RAMP, 24 UVLO (in), 25 EP (power)

## LM5035MH
designator U?
PWM Controller with Integrated Half-Bridge and SyncFET Drivers, 20-pin TSSOP-EP; PartNumber: LM5035MH; Manufacturer: National Semiconductor; PackageTopMarking: NSUZXYTT*LM5035*MH; PowerWise: Y; CompType: Switcher; Published: 4-Dec-2008; DatasheetVersion: Dec-2008; PackageVersion: revC, Jul-2006; PackageReference: MXA20A; Publisher: Altium Limited; PackageDescription: Molded TSSOP, Jedec, 6.5 x 4.4 x 0.9mm Body, 20 Lead, 0.65mm Pitch, Exposed Pad; Supplier 1: Farnell; Supplier Part Number 1: 1286767; RoHS: N; PinCount: 20; Code_JEDEC: MO-153-ACT; ComponentLink1Description: LM5035 Datasheet; ComponentLink1URL: http://www.national.com/ds/LM/LM5035.pdf; ComponentLink2Description: LM5035 Web Page; ComponentLink2URL: http://www.national.com/pf/LM/LM5035.html; ComponentLink3Description: MXA20A Package Page; ComponentLink3URL: http://www.national.com/packaging/folders/mxa20a.html
footprint MXA20A_N (TSOP, 20-Leads, Body 6.5x4.4mm, Pitch 0.65mm, Exposed Pad, IPC Medium Density)
footprint MXA20A_L (TSOP, 20-Leads, Body 6.5x4.4mm, Pitch 0.65mm, Exposed Pad, IPC High Density)
footprint MXA20A_M (TSOP, 20-Leads, Body 6.5x4.4mm, Pitch 0.65mm, Exposed Pad, IPC Low Density)
pins: 1 RAMP, 2 UVLO (in), 3 OVP (in), 4 COMP (in), 5 RT (power), 6 AGND (power), 7 CS (in), 8 SS (in), 9 DLY (in), 10 RES, 11 HB (in), 12 HS (in), 13 HO (out), 14 LO (out), 15 PGND (power), 16 VCC (power), 17 SR2 (out), 18 SR1 (out), 19 REF (power), 20 VIN (power), 21 EP (power)

## LM5035MH/NOPB
designator U?
PWM Controller with Integrated Half-Bridge and SyncFET Drivers, 20-pin TSSOP-EP, Pb-Free; PartNumber: LM5035MH/NOPB; Manufacturer: National Semiconductor; PackageTopMarking: NSUZXYTT*LM5035*MH; PowerWise: Y; CompType: Switcher; Published: 1-Mar-2010; DatasheetVersion: Dec-2008; PackageVersion: revC, Jul-2006; PackageReference: MXA20A; Publisher: Altium Limited; PackageDescription: Molded TSSOP, Jedec, 6.5 x 4.4 x 0.9mm Body, 20 Lead, 0.65mm Pitch, Exposed Pad; Supplier 1: Digi-Key; Supplier Part Number 1: LM5035MH-ND; Supplier 2: Farnell; Supplier Part Number 2: 1685785; RoHS: Y; PinCount: 20; Code_JEDEC: MO-153-ACT; ComponentLink1Description: LM5035 Datasheet; ComponentLink1URL: http://www.national.com/ds/LM/LM5035.pdf; ComponentLink2Description: LM5035 Web Page; ComponentLink2URL: http://www.national.com/pf/LM/LM5035.html; ComponentLink3Description: MXA20A Package Page; ComponentLink3URL: http://www.national.com/packaging/folders/mxa20a.html
footprint MXA20A_N (TSOP, 20-Leads, Body 6.5x4.4mm, Pitch 0.65mm, Exposed Pad, IPC Medium Density)
footprint MXA20A_L (TSOP, 20-Leads, Body 6.5x4.4mm, Pitch 0.65mm, Exposed Pad, IPC High Density)
footprint MXA20A_M (TSOP, 20-Leads, Body 6.5x4.4mm, Pitch 0.65mm, Exposed Pad, IPC Low Density)
pins: 1 RAMP, 2 UVLO (in), 3 OVP (in), 4 COMP (in), 5 RT (power), 6 AGND (power), 7 CS (in), 8 SS (in), 9 DLY (in), 10 RES, 11 HB (in), 12 HS (in), 13 HO (out), 14 LO (out), 15 PGND (power), 16 VCC (power), 17 SR2 (out), 18 SR1 (out), 19 REF (power), 20 VIN (power), 21 EP (power)

## LM5035MHX/NOPB
designator U?
PWM Controller with Integrated Half-Bridge and SyncFET Drivers, 20-pin TSSOP-EP, Pb-Free; PartNumber: LM5035MHX/NOPB; Manufacturer: National Semiconductor; PackageTopMarking: NSUZXYTT*LM5035*MH; PowerWise: Y; CompType: Switcher; Published: 1-Mar-2010; DatasheetVersion: Dec-2008; PackageVersion: revC, Jul-2006; PackageReference: MXA20A; Publisher: Altium Limited; PackageDescription: Molded TSSOP, Jedec, 6.5 x 4.4 x 0.9mm Body, 20 Lead, 0.65mm Pitch, Exposed Pad; Supplier 1: Digi-Key; Supplier Part Number 1: LM5035MHX-ND; RoHS: Y; PinCount: 20; Code_JEDEC: MO-153-ACT; ComponentLink1Description: LM5035 Datasheet; ComponentLink1URL: http://www.national.com/ds/LM/LM5035.pdf; ComponentLink2Description: LM5035 Web Page; ComponentLink2URL: http://www.national.com/pf/LM/LM5035.html; ComponentLink3Description: MXA20A Package Page; ComponentLink3URL: http://www.national.com/packaging/folders/mxa20a.html
footprint MXA20A_N (TSOP, 20-Leads, Body 6.5x4.4mm, Pitch 0.65mm, Exposed Pad, IPC Medium Density)
footprint MXA20A_L (TSOP, 20-Leads, Body 6.5x4.4mm, Pitch 0.65mm, Exposed Pad, IPC High Density)
footprint MXA20A_M (TSOP, 20-Leads, Body 6.5x4.4mm, Pitch 0.65mm, Exposed Pad, IPC Low Density)
pins: 1 RAMP, 2 UVLO (in), 3 OVP (in), 4 COMP (in), 5 RT (power), 6 AGND (power), 7 CS (in), 8 SS (in), 9 DLY (in), 10 RES, 11 HB (in), 12 HS (in), 13 HO (out), 14 LO (out), 15 PGND (power), 16 VCC (power), 17 SR2 (out), 18 SR1 (out), 19 REF (power), 20 VIN (power), 21 EP (power)